# Altium schematic symbol library diodebridges.SchLib: 1 symbol
Pins are listed as number, name and electrical type; pins without a type are passive.

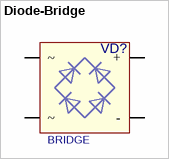
[diagram p0: symbol Diode-Bridge]

## Diode-Bridge
designator VD?  value BRIDGE  (hidden comment: Diode-Bridge)
Full Wave Diode Bridge; OriginalName: BRIDGE
footprint SOIC-4
footprint DB-1S
pins: 1 ~, 2 ~, 3 +, 4 -